# Altium footprint library 3.5TFTLCD1.PcbLib: 6 footprints
Each footprint in its own frame and in the unit in brackets; x right, y up, seen from the top. Pads: shape width x height; smd on the part's side, far side on the other; paste and mask are expansions set on the pad; w line width, h text height; cw(c..) or ccw(c..) is an arc to the next point about the centre after c.
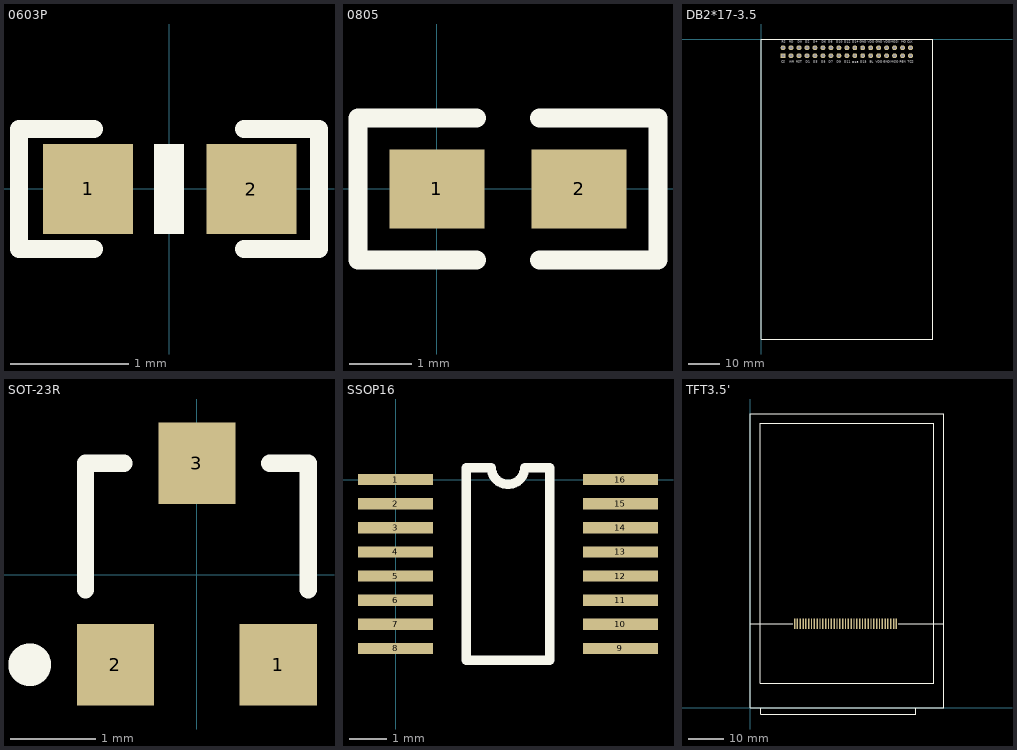
[diagram p0: the footprints below, top view; thin cyan lines are the x and y axes]

## 0603P [mil]
pads (2):
  rect 30x30 smd: 1(-27,0) 2(27.5,-0.06)
Top Overlay:
  region: 5,-15.06 5,14.94 -5,14.94 -5,-15.06
  lines w6: -25,-20.06 -50,-20.06 -50,19.94 -25,19.94 ; 25,-20.06 50,-20.06 50,19.94 25,19.94

## 0805 [mil]
pads (2):
  rect 60x50 smd: 1(0,-0.06) 2(90,-0.06)
Top Overlay:
  lines w12: 25,-45.06 -50,-45.06 -50,44.94 25,44.94 ; 65,-45.06 140,-45.06 140,44.94 65,44.94

## DB2*17-3.5 [mil]
pads (34):
  rect 62x62 hole 35: 1(275,-210)
  round 62 hole 35: 2(275,-110) 3(375,-210) 4(375,-110) 5(475,-210) 6(475,-110) 7(575,-210) 8(575,-110) 9(675,-210) 10(675,-110) 11(775,-210) 12(775,-110) 13(875,-210) 14(875,-110) 15(975,-210) 16(975,-110) 17(1075,-210) 18(1075,-110) 19(1175,-210) 20(1175,-110) 21(1275,-210) 22(1275,-110) 23(1375,-210) 24(1375,-110) 25(1475,-210) 26(1475,-110) 27(1575,-210) 28(1575,-110) 29(1675,-210) 30(1675,-110) 31(1775,-210) 32(1775,-110) 33(1875,-210) 34(1875,-110)
Top Overlay:
  lines w10: 0,-3765 2155,-3765 2155,0 650,0 0,0 0,-3765
  text "D14" at 1142.13,-48.58 h28
  text "D7" at 850,-300 h28
  text "RS" at 256.3,-48.58 h28
  text "CS" at 255,-300 h28
  text "WR" at 355,-300 h28
  text "RST" at 440,-300 h28
  text "D1" at 560,-300 h28
  text "D2" at 556.5,-48.58 h28
  text "D3" at 655,-300 h28
  text "D4" at 654.92,-48.58 h28
  text "D5" at 755,-300 h28
  text "D6" at 758.27,-48.58 h28
  text "D8" at 841.93,-48.58 h28
  text "D9" at 950,-300 h28
  text "D13" at 1142.13,-304.49 h28
  text "D12" at 1043.7,-48.58 h28
  text "D15" at 1245,-300 h28
  text "VDD" at 1440,-300 h28
  text "VDD" at 1540.75,-48.58 h28
  text "GND" at 1437.4,-48.58 h28
  text "VDD" at 1338.98,-48.58 h28
  text "D10" at 940.35,-48.58 h28
  text "D0" at 458.07,-48.58 h28
  text "RD" at 354.72,-48.58 h28
  text "GND" at 1240.55,-48.58 h28
  text "GND" at 1535,-300 h28
  text "D11" at 1045,-300 h28
  text "PEN" at 1740,-300 h28.03
  text "CLK" at 1836.02,-48.58 h28.03
  text "MOSI" at 1629.33,-48.58 h28.03
  text "MO" at 1757.28,-48.58 h28.03
  text "TCS" at 1840,-300 h28.03
  text "MISO" at 1625,-300 h28.03
  text "BL" at 1360,-300 h28
Bottom Overlay:
  lines w6: 225,-160 325,-160 325,-260 ; 225,-260 225,-60 1925,-60 1925,-260 225,-260
  lines w7: 235,-330 1925,-330
  text "CS" at 240,-350 h35
  text "RS" at 245,-275 h35
  text "RD" at 350,-275 h35
  text "WR" at 350,-350 h35
  text "D0" at 450,-275 h35
  text "RST" at 435,-350 h35
  text "D1" at 555,-350 h35
  text "D2" at 550,-275 h35
  text "D3" at 650,-350 h35
  text "D4" at 650,-275 h35
  text "D5" at 755,-350 h35
  text "D6" at 755,-275 h35
  text "D7" at 850,-350 h35
  text "D8" at 850,-275 h35
  text "D9" at 945,-350 h35
  text "D10" at 935,-275 h35
  text "D11" at 1035,-350 h35
  text "D12" at 1035,-275 h35
  text "D13" at 1135,-350 h35
  text "D14" at 1140,-275 h35
  text "D15" at 1240,-350 h35
  text "GND" at 1240,-275 h35
  text "BL" at 1350,-350 h35
  text "VDD" at 1345,-275 h35
  text "VDD" at 1425,-350 h35
  text "GND" at 1450,-275 h35
  text "GND" at 1530,-350 h35
  text "V5" at 1560,-275 h35
  text "MI" at 1655,-350 h35
  text "MO" at 1650,-275 h35
  text "PEN" at 1725,-350 h35
  text "NC" at 1750,-275 h35
  text "TCS" at 1835,-350 h35
  text "CLK" at 1835,-275 h35

## SOT-23R [mm]
pads (3):
  rect 0.9x0.95 smd: 1(0.95,-1.048) 2(-0.95,-1.048) 3(0,1.302)
Top Overlay:
  circle w0.25: c-1.95,-1.048 r0.125
  lines w0.2: -1.3,-0.173 -1.3,1.302 -0.85,1.302 ; 0.85,1.302 1.3,1.302 1.3,-0.173

## SSOP16 [mm]
pads (16):
  rect 2x0.3 smd: 1(0,0) 2(0,-0.643) 3(0,-1.286) 4(0,-1.929) 5(0,-2.572) 6(0,-3.215) 7(0,-3.858) 8(0,-4.501) 9(6,-4.501) 10(6,-3.858) 11(6,-3.215) 12(6,-2.572) 13(6,-1.929) 14(6,-1.286) 15(6,-0.643) 16(6,0)
Top Overlay:
  lines w0.254: 1.889,-4.822 4.111,-4.822 4.111,0.322 3.447,0.322 cw(c3,0.322) 2.553,0.322 1.889,0.322 1.889,-4.822

## TFT3.5' [mm]
pads (37):
  rect 0.4x3 smd: 1(12.526,23.749) 2(13.326,23.749) 3(14.126,23.749) 4(14.926,23.749) 5(15.726,23.749) 6(16.526,23.749) 7(17.326,23.749) 8(18.126,23.749) 9(18.926,23.749) 10(19.726,23.749) 11(20.526,23.749) 12(21.326,23.749) 13(22.126,23.749) 14(22.926,23.749) 15(23.726,23.749) 16(24.526,23.749) 17(25.326,23.749) 18(26.126,23.749) 19(26.926,23.749) 20(27.726,23.749) 21(28.526,23.749) 22(29.326,23.749) 23(30.126,23.749) 24(30.926,23.749) 25(31.726,23.749) 26(32.526,23.749) 27(33.326,23.749) 28(34.126,23.749) 29(34.926,23.749) 30(35.726,23.749) 31(36.526,23.749) 32(37.326,23.749) 33(38.126,23.749) 34(38.926,23.749) 35(39.726,23.749) 36(40.526,23.749) 37(41.326,23.749)
Top Overlay:
  lines w0.203: 0,23.7 12.065,23.7 ; 3,0 3,-1.8 46.736,-1.8 46.736,0 ; 41.783,23.7 54.651,23.7 ; 0,0 54.7,0 54.7,83 0,83 0,0 ; 2.85,6.951 51.85,6.951 51.85,80.391 2.85,80.391 2.85,6.951